# Altium schematic symbol library ERA3AEB4992V.SchLib: 1 symbol
Pins are listed as number, name and electrical type; pins without a type are passive.

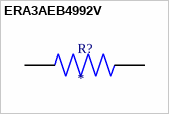
[diagram p0: symbol ERA3AEB4992V]

## ERA3AEB4992V
designator R?
MF: {'manufacturer': u'Panasonic'}; MP: ERA3AEB4992V; Package: None; Price: None; Value: *; Availability: Unavailable
footprint RES_ERA3AEB4992V
pins: 1, 2